# EAGLE library part HM-S11059 (library FaBo-Mems)
HAMAMATSU S11059(Color)
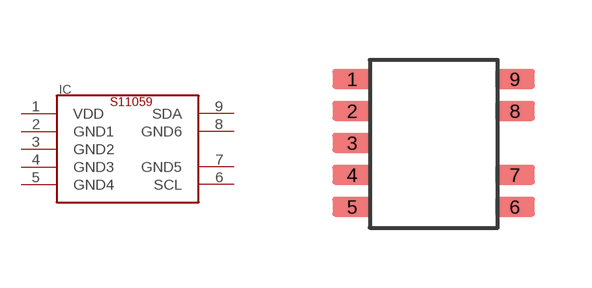
[diagram p1: symbol with the pads of HAMAMATSU-S11059; footprint HAMAMATSU-S11059]

Designator prefix IC

## HM-S11059  [HAMAMATSU-S11059]
1  VDD
2  GND1
3  GND2
4  GND3
5  GND4
6  SCL
7  GND5
8  GND6
9  SDA

## Footprint HAMAMATSU-S11059 (pad centres in mm)
smd 1 x 0.5: 1 -2.04,1.62; 2 -2.04,0.82; 3 -2.04,0.02; 4 -2.04,-0.78; 5 -2.04,-1.58; 6 2.03,-1.58; 7 2.03,-0.78; 8 2.03,0.82; 9 2.03,1.62